# Altium footprint library Interface_PcbLib.PcbLib: 20 footprints (part 1 of 2)
Each footprint in its own frame and in the unit in brackets; x right, y up, seen from the top. Pads: shape width x height; smd on the part's side, far side on the other; paste and mask are expansions set on the pad; w line width, h text height; cw(c..) or ccw(c..) is an arc to the next point about the centre after c.
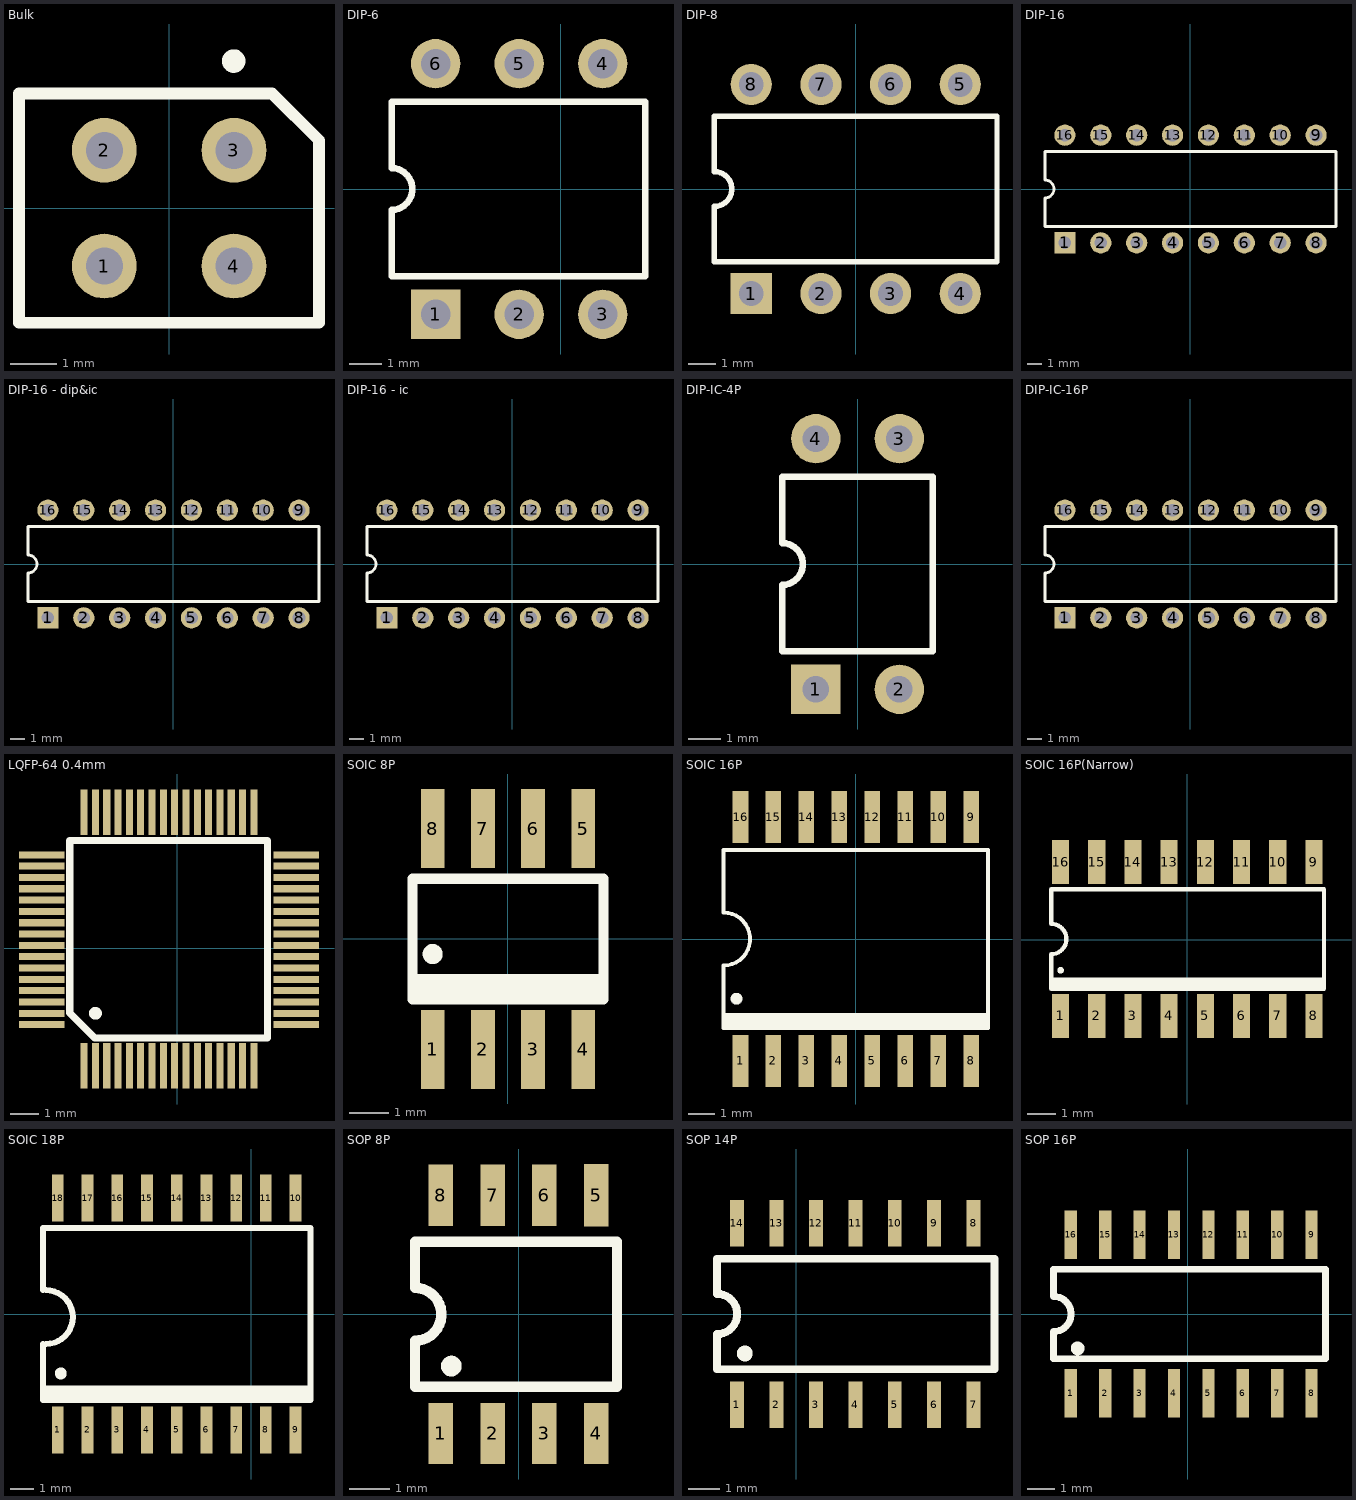
[diagram p0: the footprints below, top view; thin cyan lines are the x and y axes]

## Bulk [mm]
pads (4):
  round 1.4 hole 0.8: 1(-1.397,-1.252) 2(-1.397,1.248) 3(1.403,1.248) 4(1.403,-1.252)
Top Overlay:
  circle w0.254: c1.397,3.175 r0.127
  lines w0.254: -3.238,-2.476 3.238,-2.476 3.238,1.46 2.222,2.476 -3.238,2.476 -3.238,-2.476

## DIP-6 [mm]
height 5.08
pads (6):
  rect 1.5x1.5 hole 0.9: 1(-3.81,-3.81)
  round 1.5 hole 0.9: 2(-1.27,-3.81) 3(1.27,-3.81) 4(1.27,3.81) 5(-1.27,3.81) 6(-3.81,3.81)
Top Overlay:
  lines w0.2: -5.15,-2.65 -5.15,-0.635 ccw(c-5.15,0) -5.15,0.635 -5.15,2.65 2.565,2.65 2.565,-2.65 -5.15,-2.65
3D body "User Library-DIP6.STEP": height 4.3, standoff -3, extent -4.839,-3.91 2.281,3.96

## DIP-8 [mm]
height 5.08
pads (8):
  rect 1.5x1.5 hole 0.9: 1(-3.81,-3.81)
  round 1.5 hole 0.9: 2(-1.27,-3.81) 3(1.27,-3.81) 4(3.81,-3.81) 5(3.81,3.81) 6(1.27,3.81) 7(-1.27,3.81) 8(-3.81,3.81)
Top Overlay:
  lines w0.2: -5.15,-2.65 5.15,-2.65 5.15,2.65 -5.15,2.65 -5.15,0.635 cw(c-5.15,0) -5.15,-0.635 -5.15,-2.65
3D body "SW3DPS-DIP 8 IC-DEFAULT.STEP": height 5.08, standoff -3.5, extent -5.587,-3.935 5.333,3.935

## DIP-16 [mm]
height 5.08
pads (16):
  rect 1.5x1.5 hole 0.9: 1(-8.89,-3.81)
  round 1.5 hole 0.9: 2(-6.35,-3.81) 3(-3.81,-3.81) 4(-1.27,-3.81) 5(1.27,-3.81) 6(3.81,-3.81) 7(6.35,-3.81) 8(8.89,-3.81) 9(8.89,3.81) 10(6.35,3.81) 11(3.81,3.81) 12(1.27,3.81) 13(-1.27,3.81) 14(-3.81,3.81) 15(-6.35,3.81) 16(-8.89,3.81)
Top Overlay:
  lines w0.2: -10.3,-2.65 10.3,-2.65 10.3,2.65 -10.3,2.65 -10.3,0.635 cw(c-10.3,0) -10.3,-0.635 -10.3,-2.65
3D body "User Library-DIPS762W51P254L2032H419Q16_DIP_Socket_16__300.step": height 4.19, standoff -3.18, extent -10.16,-5.08 10.16,5.08

## DIP-16 - dip&ic [mm]
height 5.08
pads (16):
  rect 1.5x1.5 hole 0.9: 1(-8.89,-3.81)
  round 1.5 hole 0.9: 2(-6.35,-3.81) 3(-3.81,-3.81) 4(-1.27,-3.81) 5(1.27,-3.81) 6(3.81,-3.81) 7(6.35,-3.81) 8(8.89,-3.81) 9(8.89,3.81) 10(6.35,3.81) 11(3.81,3.81) 12(1.27,3.81) 13(-1.27,3.81) 14(-3.81,3.81) 15(-6.35,3.81) 16(-8.89,3.81)
Top Overlay:
  lines w0.2: -10.3,-2.65 10.3,-2.65 10.3,2.65 -10.3,2.65 -10.3,0.635 cw(c-10.3,0) -10.3,-0.635 -10.3,-2.65
3D body "User Library-DIP16-22mm.STEP": height 8.95, standoff 1.31, extent -11,-3.9 11,3.97
3D body "User Library-DIPS762W51P254L2032H419Q16_DIP_Socket_16__300.step": height 4.19, standoff -3.18, extent -10.16,-5.08 10.16,5.08

## DIP-16 - ic [mm]
height 5.08
pads (16):
  rect 1.5x1.5 hole 0.9: 1(-8.89,-3.81)
  round 1.5 hole 0.9: 2(-6.35,-3.81) 3(-3.81,-3.81) 4(-1.27,-3.81) 5(1.27,-3.81) 6(3.81,-3.81) 7(6.35,-3.81) 8(8.89,-3.81) 9(8.89,3.81) 10(6.35,3.81) 11(3.81,3.81) 12(1.27,3.81) 13(-1.27,3.81) 14(-3.81,3.81) 15(-6.35,3.81) 16(-8.89,3.81)
Top Overlay:
  lines w0.2: -10.3,-2.65 10.3,-2.65 10.3,2.65 -10.3,2.65 -10.3,0.635 cw(c-10.3,0) -10.3,-0.635 -10.3,-2.65
3D body "CircuitWorks-DIP 16 IC.step": height 5.1, standoff -3.3, extent -9.947,-3.935 10.053,3.935

## DIP-IC-4P [mm] "間距2.54mm,對點7.62mm,IC腳寬度0.5mm"
height 5.6
pads (4):
  rect 1.5x1.5 hole 0.8: 1(-1.27,-3.81)
  round 1.5 hole 0.8: 2(1.27,-3.81) 3(1.27,3.81) 4(-1.27,3.81)
Top Overlay:
  lines w0.2: -2.296,-2.65 -2.296,-0.635 ccw(c-2.296,0) -2.296,0.635 -2.296,2.65 ; -2.286,-2.65 2.286,-2.65 2.286,2.65 -2.286,2.65
3D body "User Library-DIP-4.step": height 4.3, standoff -3, extent -2.287,-3.937 2.293,3.933

## DIP-IC-16P [mm]
height 5.08
pads (16):
  rect 1.5x1.5 hole 0.9: 1(-8.89,-3.81)
  round 1.5 hole 0.9: 2(-6.35,-3.81) 3(-3.81,-3.81) 4(-1.27,-3.81) 5(1.27,-3.81) 6(3.81,-3.81) 7(6.35,-3.81) 8(8.89,-3.81) 9(8.89,3.81) 10(6.35,3.81) 11(3.81,3.81) 12(1.27,3.81) 13(-1.27,3.81) 14(-3.81,3.81) 15(-6.35,3.81) 16(-8.89,3.81)
Top Overlay:
  lines w0.2: -10.3,-2.65 -10.3,-0.635 ccw(c-10.3,0) -10.3,0.635 -10.3,2.65 10.3,2.65 10.3,-2.65 -10.3,-2.65
3D body "CircuitWorks-DIP16.step": height 4.19, standoff -2.57, extent -10.795,-3.937 10.795,3.937

## LQFP-64 0.4mm [mm] "7mm X 7mm 0.4mm"
pads (64):
  rect 0.25x1.6 smd: 1(-3.3,-4.15) 2(-2.9,-4.15) 3(-2.5,-4.15) 4(-2.1,-4.15) 5(-1.7,-4.15) 6(-1.3,-4.15) 7(-0.9,-4.15) 8(-0.5,-4.15) 9(-0.1,-4.15) 10(0.3,-4.15) 11(0.7,-4.15) 12(1.1,-4.15) 13(1.5,-4.15) 14(1.9,-4.15) 15(2.3,-4.15) 16(2.7,-4.15) 33(2.7,4.8) 34(2.3,4.8) 35(1.9,4.8) 36(1.5,4.8) 37(1.1,4.8) 38(0.7,4.8) 39(0.3,4.8) 40(-0.1,4.8) 41(-0.5,4.8) 42(-0.9,4.8) 43(-1.3,4.8) 44(-1.7,4.8) 45(-2.1,4.8) 46(-2.5,4.8) 47(-2.9,4.8) 48(-3.3,4.8)
  rect 1.6x0.25 smd: 17(4.2,-2.7) 18(4.2,-2.3) 19(4.2,-1.9) 20(4.2,-1.5) 21(4.2,-1.1) 22(4.2,-0.7) 23(4.2,-0.3) 24(4.2,0.1) 25(4.2,0.5) 26(4.2,0.9) 27(4.2,1.3) 28(4.2,1.7) 29(4.2,2.1) 30(4.2,2.5) 31(4.2,2.9) 32(4.2,3.3) 49(-4.8,3.3) 50(-4.8,2.9) 51(-4.8,2.5) 52(-4.8,2.1) 53(-4.8,1.7) 54(-4.8,1.3) 55(-4.8,0.9) 56(-4.8,0.5) 57(-4.8,0.1) 58(-4.8,-0.3) 59(-4.8,-0.7) 60(-4.8,-1.1) 61(-4.8,-1.5) 62(-4.8,-1.9) 63(-4.8,-2.3) 64(-4.8,-2.7)
Top Overlay:
  circle w0.254: c-2.9,-2.3 r0.1
  lines w0.254: -3.81,-2.29 -3.81,3.81 3.175,3.81 3.175,-3.175 -2.925,-3.175 -3.81,-2.29

## SOIC 8P [mm]
pads (8):
  rect 0.6x2 smd: 1(-1.905,-2.794) 2(-0.635,-2.794) 3(0.635,-2.794) 4(1.905,-2.794) 5(1.905,2.794) 6(0.635,2.794) 7(-0.635,2.794) 8(-1.905,2.794)
Top Overlay:
  circle w0.254: c-1.905,-0.381 r0.127
  rectangle: -2.413,-1.524 2.413,-1.016
  lines w0.254: -2.413,-1.016 2.413,-1.016 ; -2.413,-1.524 -2.413,1.524 2.413,1.524 2.413,-1.524 -2.413,-1.524
3D body "User Library-SOIC-8-1.step": height 1.75, standoff 0, extent -2.45,-3 2.45,3

## SOIC 16P [mm] "7.5mm X 10.3mm"
pads (16):
  rect 0.6x2 smd: 1(-4.445,-4.699) 2(-3.175,-4.699) 3(-1.905,-4.699) 4(-0.635,-4.699) 5(0.635,-4.699) 6(1.905,-4.699) 7(3.175,-4.699) 8(4.445,-4.699) 9(4.445,4.701) 10(3.175,4.701) 11(1.905,4.701) 12(0.635,4.701) 13(-0.635,4.701) 14(-1.905,4.701) 15(-3.175,4.701) 16(-4.445,4.701)
Top Overlay:
  circle w0.254: c-4.6,-2.3 r0.1
  rectangle: -5.099,-3.429 5.1,-2.921
  lines w0.15: -5.099,-2.921 5.1,-2.921 ; -5.099,-3.429 -5.099,-1.024 ccw(c-5.099,0) -5.099,1.024 -5.099,3.429 5.1,3.429 5.1,-3.429 -5.099,-3.429
3D body "User Library-so16w.step": height 3.5, standoff 0, extent -5.1,-5.15 5.1,5.15

## SOIC 16P(Narrow) [mm] "3.9mm X 9.9mm"
pads (16):
  rect 0.6x1.55 smd: 1(-4.445,-2.667) 2(-3.175,-2.667) 3(-1.905,-2.667) 4(-0.635,-2.667) 5(0.635,-2.667) 6(1.905,-2.667) 7(3.175,-2.667) 8(4.445,-2.667) 9(4.445,2.733) 10(3.175,2.733) 11(1.905,2.733) 12(0.635,2.733) 13(-0.635,2.733) 14(-1.905,2.733) 15(-3.175,2.733) 16(-4.445,2.733)
Top Overlay:
  circle w0.15: c-4.445,-1.067 r0.04
  rectangle: -4.775,-1.714 4.788,-1.397
  lines w0.15: -4.775,-1.397 4.788,-1.397 ; -4.775,-1.714 -4.775,-0.502 ccw(c-4.775,0.032) -4.775,0.565 -4.775,1.778 4.801,1.778 4.801,-1.714 -4.775,-1.714
3D body "User Library-SOIC-16-1.step": height 1.4, standoff 0, extent -4.953,-3 4.947,3

## SOIC 18P [mm]
pads (18):
  rect 0.5x2 smd: 1(-8.255,-4.953) 2(-6.985,-4.953) 3(-5.715,-4.953) 4(-4.445,-4.953) 5(-3.175,-4.953) 6(-1.905,-4.953) 7(-0.635,-4.953) 8(0.635,-4.953) 9(1.905,-4.953) 10(1.905,4.953) 11(0.635,4.953) 12(-0.635,4.953) 13(-1.905,4.953) 14(-3.175,4.953) 15(-4.445,4.953) 16(-5.715,4.953) 17(-6.985,4.953) 18(-8.255,4.953)
Top Overlay:
  circle w0.254: c-8.128,-2.54 r0.127
  rectangle: -8.89,-3.683 2.54,-3.048
  lines w0.254: -8.89,-1.284 -8.89,-3.683 2.54,-3.683 2.54,3.683 -8.89,3.683 -8.89,1.016 ; -8.763,-1.284 ccw(c-8.763,-0.134) -8.763,1.016
3D body "User Library-SOIC-18-300.STEP": height 2.57, standoff -0.03, extent -9.05,-5.173 2.7,5.427

## SOP 8P [mm] "1.27mm丁禯"
pads (8):
  rect 0.6x1.5 smd: 1(-1.905,-2.921) 2(-0.635,-2.921) 3(0.635,-2.921) 4(1.905,-2.921) 6(0.635,2.921) 7(-0.635,2.921) 8(-1.905,2.921)
  rect 0.6x1.53 smd: 5(1.905,2.921)
Top Overlay:
  circle w0.254: c-1.651,-1.27 r0.127
  lines w0.254: -2.54,-1.778 -2.54,-0.648 ccw(c-2.54,0) -2.54,0.648 -2.54,1.778 2.413,1.778 2.413,-1.778 -2.54,-1.778
3D body "User Library-SOIC-8-1.STEP": height 1.75, standoff 0, extent -2.45,-3 2.45,3

## SOP 14P [mm] "丁禯1.27mm"
pads (14):
  rect 0.45x1.5 smd: 1(-1.905,-2.921) 2(-0.635,-2.921) 3(0.635,-2.921) 4(1.905,-2.921) 5(3.175,-2.921) 6(4.445,-2.921) 7(5.715,-2.921) 8(5.715,2.921) 9(4.445,2.921) 10(3.175,2.921) 11(1.905,2.921) 12(0.635,2.921) 13(-0.635,2.921) 14(-1.905,2.921)
Top Overlay:
  circle w0.254: c-1.651,-1.27 r0.127
  lines w0.254: -2.54,-1.778 6.39,-1.778 6.39,1.778 -2.54,1.778 -2.54,0.648 cw(c-2.54,0) -2.54,-0.648 -2.54,-1.778
3D body "User Library-SOIC-14.step": height 1.75, standoff 0, extent -2.475,-2.93 6.275,3.07

## SOP 16P [mm] "1.27mm"
pads (16):
  rect 0.45x1.8 smd: 1(-4.318,-2.921) 2(-3.048,-2.921) 3(-1.778,-2.921) 4(-0.508,-2.921) 5(0.762,-2.921) 6(2.032,-2.921) 7(3.302,-2.921) 8(4.572,-2.921) 9(4.572,2.921) 10(3.302,2.921) 11(2.032,2.921) 12(0.762,2.921) 13(-0.508,2.921) 14(-1.778,2.921) 15(-3.048,2.921) 16(-4.318,2.921)
Top Overlay:
  circle w0.254: c-4.064,-1.27 r0.127
  lines w0.254: -4.953,-1.651 5.08,-1.651 5.08,1.651 -4.953,1.651 -4.953,0.648 cw(c-4.953,0) -4.953,-0.648 -4.953,-1.651
3D body "User Library-SOIC-16-1.step": height 1.4, standoff 0, extent -4.823,-3 5.077,3